# Altium schematic symbol library MBR0530.SchLib: 1 symbol
Pins are listed as number, name and electrical type; pins without a type are passive.

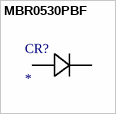
[diagram p0: symbol MBR0530PBF]

## MBR0530PBF
designator CR?
Imported; Manufacturer_Part_Number: MBR0530PBF; Vendor: Vishay; Supersection: Semiconductors; Section: Discretes; Type: DEV; C: Copyright (C) 2015 Accelerated Designs. All rights reserved; Family: Rectifier; Manufacturer_Name: Vishay; RS Part Number: 7000868; Copyright: Copyright (C) 2015 Accelerated Designs. All rights reserved; RefDes: RefDes; Value: Value
footprint DIODE_SOD123
pins: 1, 2